# Altium footprint library SHUNT RESISTOR (1).PcbLib: 1 footprints
Each footprint in its own frame and in the unit in brackets; x right, y up, seen from the top. Pads: shape width x height; smd on the part's side, far side on the other; paste and mask are expansions set on the pad; w line width, h text height; cw(c..) or ccw(c..) is an arc to the next point about the centre after c.
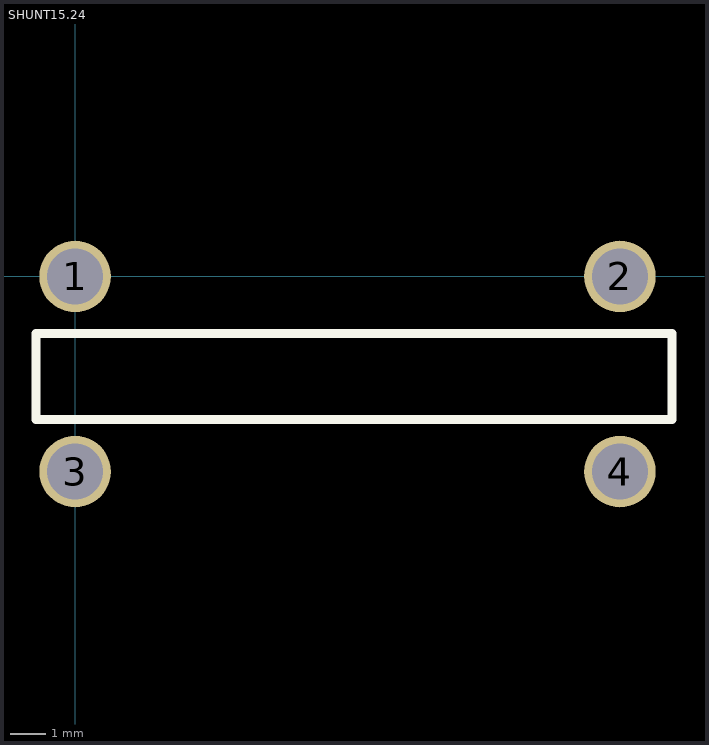
[diagram p0: the footprint, top view; thin cyan lines are the x and y axes]

## SHUNT15.24 [mm] "SHUNT RESISTER 15.24"
pads (4):
  round 2 hole 1.57: 1(0,0) 2(15.24,0) 3(0,-5.46) 4(15.24,-5.46)
Top Overlay:
  lines w0.254: -1.1,-4 16.7,-4 16.7,-1.6 -1.1,-1.6 -1.1,-4